# Altium schematic symbol library SG_SCH_Optoelectronics.SchLib: 18 symbols
Pins are listed as number, name and electrical type; pins without a type are passive.

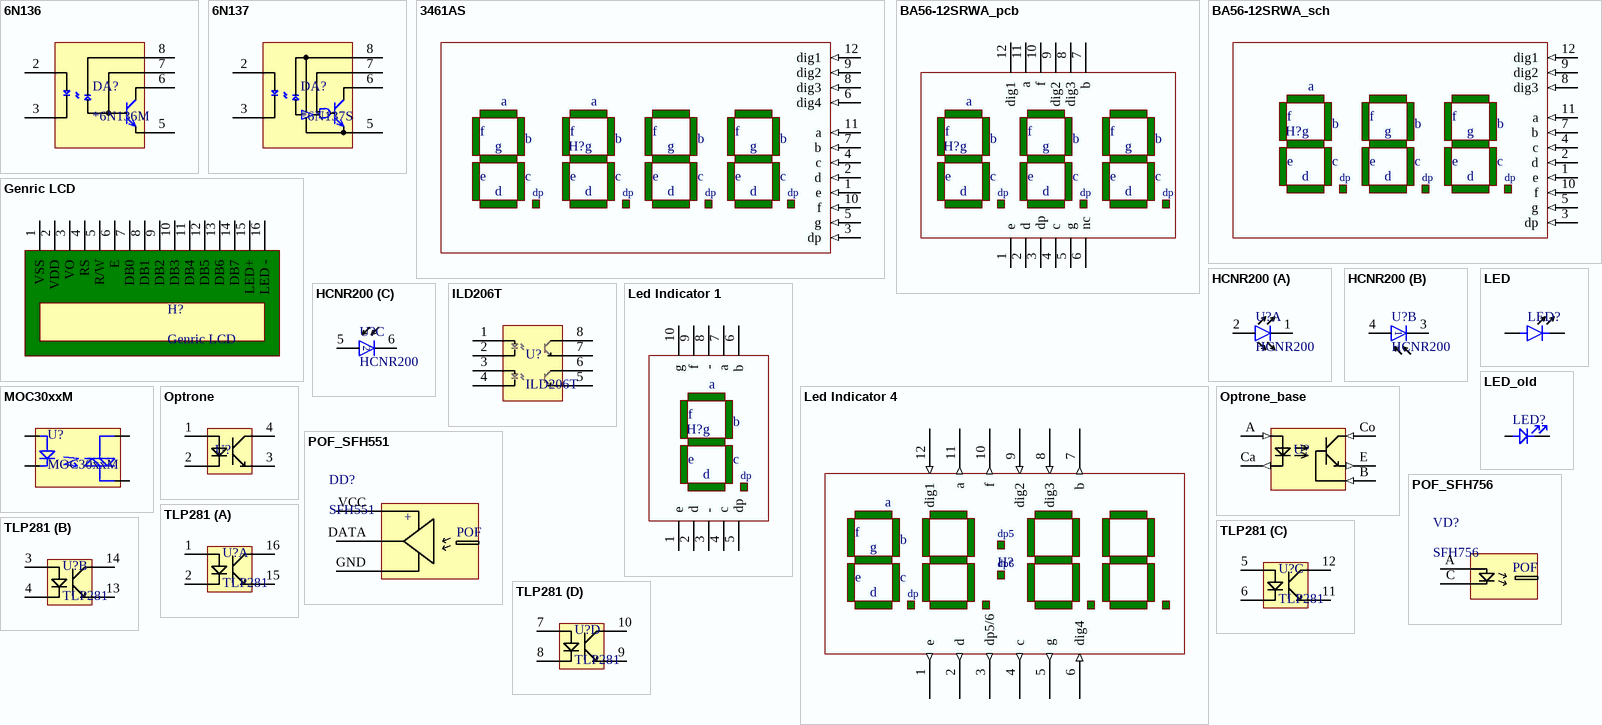
[diagram p0: symbols 6N136 to TLP281]

## 6N136
designator DA?, comment *6N136M
Single Channel High Speed 1MBit/s Transistor Optocouple; Order: *6N136M
footprint DIP-8-300 (DIP; 8 Leads; Row Spacing 7.62 mm; Pitch 2.54 mm)
footprint DIP-8-SMD (Footprint not found)
pins: 2 +, 3 -, 5 GND, 6 Vo, 7 Vb, 8 Vcc

## 6N137
designator DA?, comment *6N137S
High Speed 10MBit/s Logic Gate Optocoupler; Order: *6N137S
footprint DIP-8-300 (DIP; 8 Leads; Row Spacing 7.62 mm; Pitch 2.54 mm)
footprint DIP-8-SMD (Footprint not found)
pins: 2 +, 3 -, 5 GND, 6 Vo, 7 Ve, 8 Vcc

## 3461AS
designator H?  (value not drawn)
Quad 7-segment LED indicator; OriginalSource: MiniSat; Order: *; DefaultOrder: 3461AS
footprint 3461AS (4s 7seg 12pin) (4 digits 7segment dynamic indicator)
pins: 1 e (in), 2 d (in), 3 dp (in), 4 c (in), 5 g (in), 6 dig4 (in), 7 b (in), 8 dig3 (in), 9 dig2 (in), 10 f (in), 11 a (in), 12 dig1 (in)

## BA56-12SRWA_pcb
designator H?
Triple 7-segment LED indicator; DefaultOrder: BA56-12SRWA; OriginalSource: RpiCNC; Order: *
footprint BA56-12 (3 digits 7segment dynamic indicator)
pins: 1 e, 2 d, 3 dp, 4 c, 5 g, 6 nc, 7 b, 8 dig3, 9 dig2, 10 f, 11 a, 12 dig1

## BA56-12SRWA_sch
designator H?
Triple 7-segment LED indicator; DefaultOrder: BA56-12SRWA; OriginalSource: RpiCNC; Order: *
footprint BA56-12 (3 digits 7segment dynamic indicator)
pins: 1 e (in), 2 d (in), 3 dp (in), 4 c (in), 5 g (in), 7 b (in), 8 dig3 (in), 9 dig2 (in), 10 f (in), 11 a (in), 12 dig1 (in)

## Genric LCD
designator H?
LCD 1X16 (2X8); OriginalSource: AltTab; Order: *
footprint LCD_80x36 (Footprint not found)
pins: 1 VSS, 2 VDD, 3 VO, 4 RS, 5 R/W, 6 E, 7 DB0, 8 DB1, 9 DB2, 10 DB3, 11 DB4, 12 DB5, 13 DB6, 14 DB7, 15 LED+, 16 LED -

## HCNR200
designator U?
High-Linearity Analog Optocouplers; DefaultOrder: HCNR200-000E; OriginalSource: AltTab; Order: *
footprint DIP-8-400 (Footprint not found)
part A pins: 1 Cathode, 2 Anode
part B pins: 3 Cathode, 4 Anode
part C pins: 5 Anode, 6 Cathode

## ILD206T
designator U?
OriginalSource: AltTab; DefaultOrder: ILD206T; Order: *
footprint SO8 (SOIC, 8-Leads, Body 4,9x3,9mm (max), Pitch 1,27mm, IPC Medium Density)
pins: 1 9, 2, 3, 4, 5, 6, 7, 8

## LED
designator LED?  (value not drawn)
Light Emittering Diode; PartValue: LED*0603 *; OriginalSource: AltTab; Order: *; Package: *0603; Wavelength: *; LCSC Part #: *
footprint LED-0603L (Chip Resistor, 2-Leads, Body 1,60x0,85mm, IPC High Density)
footprint LED-0603N (Chip Resistor, 2-Leads, Body 1,60x0,85mm, IPC Medium Density)
footprint LED-0603M (Chip Resistor, 2-Leads, Body 1,60x0,85mm, IPC Low Density)
footprint LED-0805L (Chip Resistor, 2-Leads, Body 2,10x1,30mm, IPC High Density)
footprint LED-0805N (Chip Resistor, 2-Leads, Body 2,10x1,30mm, IPC Medium Density)
footprint LED-0805M (Chip Resistor, 2-Leads, Body 2,10x1,30mm, IPC Low Density)
footprint LED 5mm
footprint LED 5mm R
footprint LED 3mm bottom
footprint LED 3mm top
pins: 1 Anode, 2 Cathode

## Led Indicator 1
designator H?
1x7 LED INDICATOR; DefaultOrder: KCSC02; OriginalSource: AltTab
pins: 1 e, 2 d, 3 -, 4 c, 5 dp, 6 b, 7 a, 8 -, 9 f, 10 g

## Led Indicator 4
designator H?
4x7 LED INDICATOR; DefaultOrder: CA56-21GWA; OriginalSource: AltTab; Order: *
footprint FYQ-3641 (12pin 4digit 30mm width 7segment indicator)
footprint FYQ-5641 (12pin 4digit 50mm width 7segment indicator)
pins: 1 e (out), 2 d (out), 3 dp5/6 (out), 4 c (out), 5 g (out), 6 dig4 (in), 7 b (out), 8 dig3 (in), 9 dig2 (in), 10 f (out), 11 a (out), 12 dig1 (in)
text: dp5; dp6; dp

## LED_old
designator LED?, comment LED  (value not drawn)
Light Emittering Diode; OriginalSource: AltTab; Order: *
footprint LED0805
footprint LED 5mm R
footprint LED 0805 (Chip LED, 2-Leads, Body 2,1x1,3mm, IPC Medium Density)
pins: 1 +, 2 -

## MOC30xxM
designator U?
Optotriac driver; OriginalSource: AltTab; Order: *
footprint DIP-6
pins: 1, 2, 4, 6

## Optrone
designator U?
Optopair; OriginalSource: AltTab; Order: *
footprint DIP4
pins: 1, 2 11, 3 8, 4 9

## Optrone_base
designator U?
Optopair with base for external connectivity; OriginalSource: RPiCNC; DefaultOrder: 4N35; Order: *
footprint DIP-6; pin to pad A>1 B>6 Ca>2 Co>5 E>4
pins: A (in), B (in), Ca (out), Co (in), E (out)

## POF_SFH551
designator DD?, comment SFH551
Receiver with Digital Output Stage / for Polymer Optical Fiber Applications; DefaultOrder: SP000063855; OriginalSource: AltTab
footprint POF_SFH551 (HighCAP)
pins: DATA, GND, VCC
text: +; POF

## POF_SFH756
designator VD?, comment SFH756
Plastic Fiber Optic Transmitter Diode / Plastic Connector Housing; DefaultOrder: SP000063814; OriginalSource: AltTab
footprint POF_SFH756 (HighCAP)
pins: A, C
text: POF

## TLP281
designator U?
4 channel optopair; DefaultOrder: TLP281-4GB-TP; OriginalSource: AltTab; Order: *
footprint SO-16
part A pins: 1, 2 11, 15, 16
part B pins: 3, 4, 13, 14
part C pins: 5, 6, 11, 12
part D pins: 7, 8, 9, 10